# EAGLE library part RV-3032-C7 (library RV-3032-C7)
Real-time Clock in 1.5 x 3.2 mm package Source: Datasheet <https://g.componentsearchengine.com/Datasheets/0/13169570.pdf>
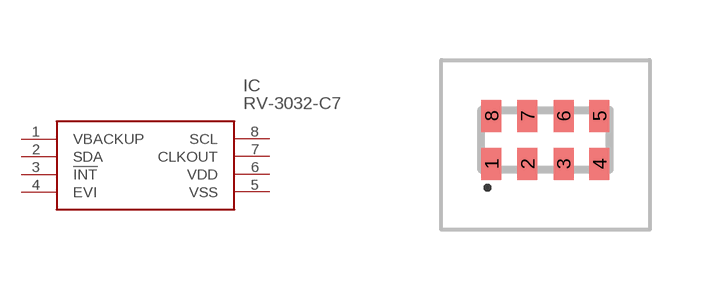
[diagram p0: symbol with the pads of RV3032C7; footprint RV3032C7]

Designator prefix IC

## RV-3032-C7 (Description: Real-time Clock in 1.5 x 3.2 mm package; Height: mm; Manufacturer_Name: Micro Crystal AG; Manufacturer_Part_Number: RV-3032-C7)  [RV3032C7]
1  VBACKUP
2  SDA
3  !INT
4  EVI
5  VSS
6  VDD
7  CLKOUT
8  SCL

## Footprint RV3032C7 (pad centres in mm)
RV-3032-C7-1
smd 0.5 x 0.8: 1 -1.35,-0.6; 2 -0.45,-0.6; 3 0.45,-0.6; 4 1.35,-0.6; 5 1.35,0.6; 6 0.45,0.6; 7 -0.45,0.6; 8 -1.35,0.6